# EAGLE library part 691401700008B (library WR-TBL Spring Clamp)
WR-TBL Serie 401B - 5.00 mm Screwless Vertical Entry - 2.0 mm 2 Wires KIND PROPERTIES Pitch 5 mm MATERIAL PROPERTIES Insulator Material PA66 Insulator Flammability Rating UL94 V-0 Contact Material Brass Contact Plating Tin Wire Guard Material Stainless Steel GENERAL INFORMATION Operating Temperature -40 up to +105 °C Compliance RoHS ELECTRICAL PROPERTIES IR cULus 10 A IR VDE 16 A Working Voltage [cULus] 300 V (AC) Working Voltage [VDE] 450 V (AC) Withstanding Voltage [cULus] 2000 V (AC) Contact Resistance [cULus] 20 mΩ Contact Resistance [VDE] 20 mΩ Mechanical Properties Wire Strip Length 9 up to 10 (mm) Wire Properties Solid Wire Section (AWG) 14 to 24 (AWG) Solid Wire Section (Metric) 2.08 to 0.205 (mm²) Stranded Wire Section (AWG) 14 to 24 (AWG) Stranded Wire Section (Metric) 2.08 to 0.205 (mm²) CERTIFICATION cULus Approval E315414 VDE Approval 40036896 Packaging Properties Packaging Box <https://www.we-online.com/catalog/media/o33321v209%20Family_WR-TBL_6914017000xxB.jpg> Details see: https://www.we-online.com/catalog/en/TBL_5_00_401B_SCREWLESS_VERTICAL_ENTRY_2_0MM2_WIRES_6914017000XXB/ Updated by Ella Wu 2019-12-31 2019(C) Wurth Elektronik
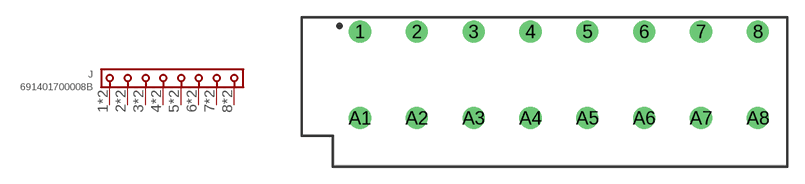
[diagram p64: symbol with the pads of 691401700008B; footprint 691401700008B]

Designator prefix J

## 691401700008B (DATASHEET-URL: https://www.we-online.com/redexpert/spec/691401700008B?ae; IR-UL: 10A; IR-VDE: 16A; MOUNT: THT; PART-NUMBER: 691401700008B; PINS: 8; PITCH: 5mm; TYPE: Vertical; VALUE: 691401700008B; WIRE: 14 to 24 (AWG) 2.08 to 0.205 (mm²); WORKING-VOLTAGE-UL: 300V (AC); WORKING-VOLTAGE-VDE: 450V (AC))  [691401700008B]
1  1  pas
2  2  pas
3  3  pas
4  4  pas
5  5  pas
6  6  pas
7  7  pas
8  8  pas
A1  1  pas
A2  2  pas
A3  3  pas
A4  4  pas
A5  5  pas
A6  6  pas
A7  7  pas
A8  8  pas

## Footprint 691401700008B (pad centres in mm)
WR-TBL Serie 401B - 5.00 mm Screwless Vertical Entry - 2.0 mm 2 Wires Max Height = 14mm , Pitch 5mm , 8pins
drill 1.3: 1 -17.5,3.81; 2 -12.5,3.81; 3 -7.5,3.81; 4 -2.5,3.81; 5 2.5,3.81; 6 7.5,3.81; 7 12.5,3.81; 8 17.5,3.81; A1 -17.5,-3.81; A2 -12.5,-3.81; A3 -7.5,-3.81; A4 -2.5,-3.81; A5 2.5,-3.81; A6 7.5,-3.81; A7 12.5,-3.81; A8 17.5,-3.81